# Altium footprint library CAPAE660X800D780L260X65N.PcbLib: 1 footprints
Each footprint in its own frame and in the unit in brackets; x right, y up, seen from the top. Pads: shape width x height; smd on the part's side, far side on the other; paste and mask are expansions set on the pad; w line width, h text height; cw(c..) or ccw(c..) is an arc to the next point about the centre after c.
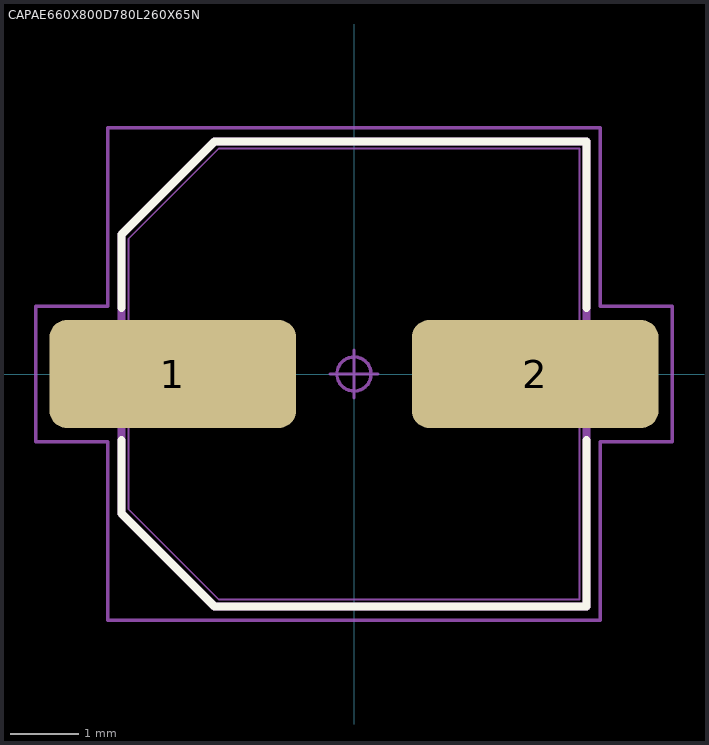
[diagram p0: the footprint, top view; thin cyan lines are the x and y axes]

## CAPAE660X800D780L260X65N [mm] "Capacitor, Aluminum Electrolytic; 6.60 mm L X 6.60 mm W X 8.00 mm H body"
height 8
pads (2):
  rrect32% 3.61x1.58 smd: 1(-2.65,0) 2(2.65,0)
Top Overlay:
  lines w0.12: -3.4,-0.97 -3.4,-2.04 -2.04,-3.4 3.4,-3.4 3.4,-0.97 ; -3.4,0.97 -3.4,2.04 -2.04,3.4 3.4,3.4 3.4,0.97
Mechanical 3:
  lines w0.12: -3.4,-2.04 -2.04,-3.4 3.4,-3.4 3.4,3.4 -2.04,3.4 -3.4,2.04 -3.4,-2.04
Mechanical 5:
  lines w0.025: -3.9,-0.325 -1.3,-0.325 -1.3,0.325 -3.9,0.325 -3.9,-0.325 ; -3.3,-1.98 -1.98,-3.3 3.3,-3.3 3.3,3.3 -1.98,3.3 -3.3,1.98 -3.3,-1.98 ; 1.3,-0.325 1.3,0.325 3.9,0.325 3.9,-0.325 1.3,-0.325
Mechanical 7:
  circle w0.05: c0,0 r0.25
  lines w0.05: -0.35,0 0.35,0 ; 0,-0.35 0,0.35 ; -4.655,-0.99 -4.655,0.99 -3.6,0.99 -3.6,3.6 3.6,3.6 3.6,0.99 4.655,0.99 4.655,-0.99 3.6,-0.99 3.6,-3.6 -3.6,-3.6 -3.6,-0.99 -4.655,-0.99
Mechanical 9:
  text "'.Designator'" at -4.93,-0.929 h1
3D body "CAPAE660X800D780L260X65.STEP": height 8, standoff 0, extent -3.5,-3.3 3.5,3.3
3D body: height 1.04, standoff 0, extent -4.655,-3.6 4.655,3.6